# Altium footprint library MT25QU256ABA1EW9-0SIT.PcbLib: 3 footprints
Each footprint in its own frame and in the unit in brackets; x right, y up, seen from the top. Pads: shape width x height; smd on the part's side, far side on the other; paste and mask are expansions set on the pad; w line width, h text height; cw(c..) or ccw(c..) is an arc to the next point about the centre after c.
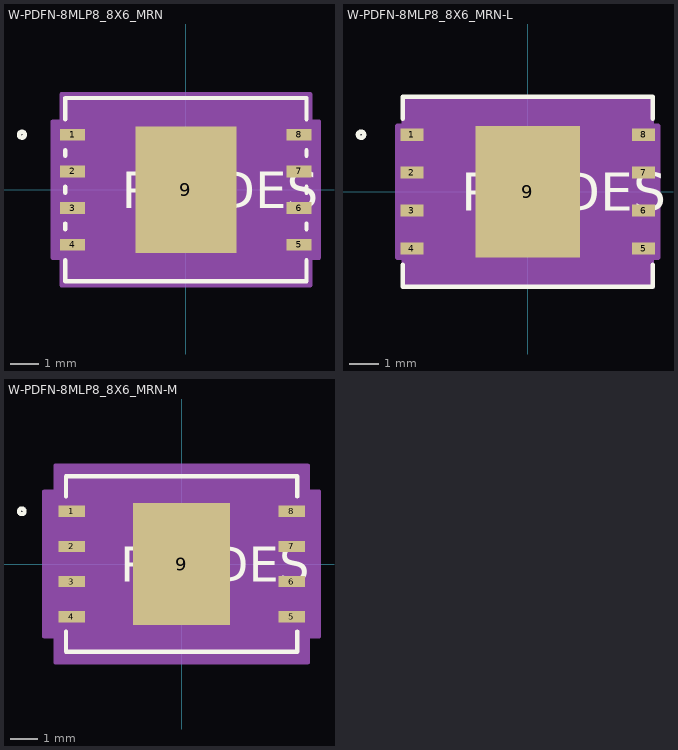
[diagram p0: the footprints below, top view; thin cyan lines are the x and y axes]

## W-PDFN-8MLP8_8X6_MRN [mil]
pads (9):
  rect 34x16 smd paste+0 mask+0: 1(-154.5,75) 2(-154.5,25) 3(-154.5,-25) 4(-154.5,-75) 5(154.5,-75) 6(154.5,-25) 7(154.5,25) 8(154.5,75)
  rect 138x173 smd paste+0 mask+0: 9(0,0)
Top Overlay:
  circle w6: c-223.5,75 r4
  lines w6: -164.5,-96.1 -164.5,-125 164.5,-125 164.5,-96.1 ; -164.5,-53.9 -164.5,-46.1 ; -164.5,-3.9 -164.5,3.9 ; -164.5,46.1 -164.5,53.9 ; -164.5,96.1 -164.5,125 164.5,125 164.5,96.1 ; 164.5,-53.9 164.5,-46.1 ; 164.5,-3.9 164.5,3.9 ; 164.5,46.1 164.5,53.9
  text "REFDES" at -87.5,-25 h50
Top Paste:
  region: -3.94,82.56 -65.06,82.56 -65.06,32.77 -3.94,32.77
  region: -3.94,24.9 -65.06,24.9 -65.06,-24.9 -3.94,-24.9
  region: -3.94,-32.77 -65.06,-32.77 -65.06,-82.56 -3.94,-82.56
  region: 65.06,82.56 3.94,82.56 3.94,32.77 65.06,32.77
  region: 65.06,24.9 3.94,24.9 3.94,-24.9 65.06,-24.9
  region: 65.06,-32.77 3.94,-32.77 3.94,-82.56 65.06,-82.56
Mechanical 13:
  circle w0: c-137.5,75 r3
  lines w0: -12,120 ccw(c0,120) 12,120
  lines w1: -159.5,-120 159.5,-120 159.5,120 -159.5,120 -159.5,-120
  text "RefDes2" at -87.5,-25 h50
Mechanical 15:
  region: -169.5,-93 -181.5,-93 -181.5,93 -169.5,93 -169.5,130 169.5,130 169.5,93 181.5,93 181.5,-93 169.5,-93 169.5,-130 -169.5,-130
  lines w6: -181.5,-93 -181.5,93 -169.5,93 -169.5,130 169.5,130 169.5,93 181.5,93 181.5,-93 169.5,-93 169.5,-130 -169.5,-130 -169.5,-93 -181.5,-93
3D body "W-PDFN-8MLP8_8X6_MRN.step": height 32.09, standoff 0, extent -159.49,-120 159.49,120

## W-PDFN-8MLP8_8X6_MRN-L [mil]
pads (9):
  rect 30x16 smd paste+0 mask+0: 1(-152.5,75) 2(-152.5,25) 3(-152.5,-25) 4(-152.5,-75) 5(152.5,-75) 6(152.5,-25) 7(152.5,25) 8(152.5,75)
  rect 138x173 smd paste+0 mask+0: 9(0,0)
Top Overlay:
  circle w6: c-219.5,75 r4
  lines w6: -164.5,-96.1 -164.5,-125 164.5,-125 164.5,-96.1 ; -164.5,96.1 -164.5,125 164.5,125 164.5,96.1
  text "REFDES" at -87.5,-25 h50
Top Paste:
  region: -3.94,82.56 -65.06,82.56 -65.06,32.77 -3.94,32.77
  region: -3.94,24.9 -65.06,24.9 -65.06,-24.9 -3.94,-24.9
  region: -3.94,-32.77 -65.06,-32.77 -65.06,-82.56 -3.94,-82.56
  region: 65.06,82.56 3.94,82.56 3.94,32.77 65.06,32.77
  region: 65.06,24.9 3.94,24.9 3.94,-24.9 65.06,-24.9
  region: 65.06,-32.77 3.94,-32.77 3.94,-82.56 65.06,-82.56
Mechanical 13:
  circle w0: c-137.5,75 r3
  lines w0: -12,120 ccw(c0,120) 12,120
  lines w1: -159.5,-120 159.5,-120 159.5,120 -159.5,120 -159.5,-120
  text "RefDes2" at -87.5,-25 h50
Mechanical 15:
  region: -163.5,-87 -171.5,-87 -171.5,87 -163.5,87 -163.5,124 163.5,124 163.5,87 171.5,87 171.5,-87 163.5,-87 163.5,-124 -163.5,-124
  lines w6: -171.5,-87 -171.5,87 -163.5,87 -163.5,124 163.5,124 163.5,87 171.5,87 171.5,-87 163.5,-87 163.5,-124 -163.5,-124 -163.5,-87 -171.5,-87
3D body "W-PDFN-8MLP8_8X6_MRN.step": height 32.09, standoff 0, extent -159.49,-120 159.49,120

## W-PDFN-8MLP8_8X6_MRN-M [mil]
pads (9):
  rect 38x16 smd paste+0 mask+0: 1(-156.5,75) 2(-156.5,25) 3(-156.5,-25) 4(-156.5,-75) 5(156.5,-75) 6(156.5,-25) 7(156.5,25) 8(156.5,75)
  rect 138x173 smd paste+0 mask+0: 9(0,0)
Top Overlay:
  circle w6: c-227.5,75 r4
  lines w6: -164.5,-96.1 -164.5,-125 164.5,-125 164.5,-96.1 ; -164.5,96.1 -164.5,125 164.5,125 164.5,96.1
  text "REFDES" at -87.5,-25 h50
Top Paste:
  region: -3.94,82.56 -65.06,82.56 -65.06,32.77 -3.94,32.77
  region: -3.94,24.9 -65.06,24.9 -65.06,-24.9 -3.94,-24.9
  region: -3.94,-32.77 -65.06,-32.77 -65.06,-82.56 -3.94,-82.56
  region: 65.06,82.56 3.94,82.56 3.94,32.77 65.06,32.77
  region: 65.06,24.9 3.94,24.9 3.94,-24.9 65.06,-24.9
  region: 65.06,-32.77 3.94,-32.77 3.94,-82.56 65.06,-82.56
Mechanical 13:
  circle w0: c-137.5,75 r3
  lines w0: -12,120 ccw(c0,120) 12,120
  lines w1: -159.5,-120 159.5,-120 159.5,120 -159.5,120 -159.5,-120
  text "RefDes2" at -87.5,-25 h50
Mechanical 15:
  region: -179.5,-103 -195.5,-103 -195.5,103 -179.5,103 -179.5,140 179.5,140 179.5,103 195.5,103 195.5,-103 179.5,-103 179.5,-140 -179.5,-140
  lines w6: -195.5,-103 -195.5,103 -179.5,103 -179.5,140 179.5,140 179.5,103 195.5,103 195.5,-103 179.5,-103 179.5,-140 -179.5,-140 -179.5,-103 -195.5,-103
3D body "W-PDFN-8MLP8_8X6_MRN.step": height 32.09, standoff 0, extent -159.49,-120 159.49,120